# Altium footprint library ICs.PcbLib: 69 footprints (part 4 of 5)
Each footprint in its own frame and in the unit in brackets; x right, y up, seen from the top. Pads: shape width x height; smd on the part's side, far side on the other; paste and mask are expansions set on the pad; w line width, h text height; cw(c..) or ccw(c..) is an arc to the next point about the centre after c.
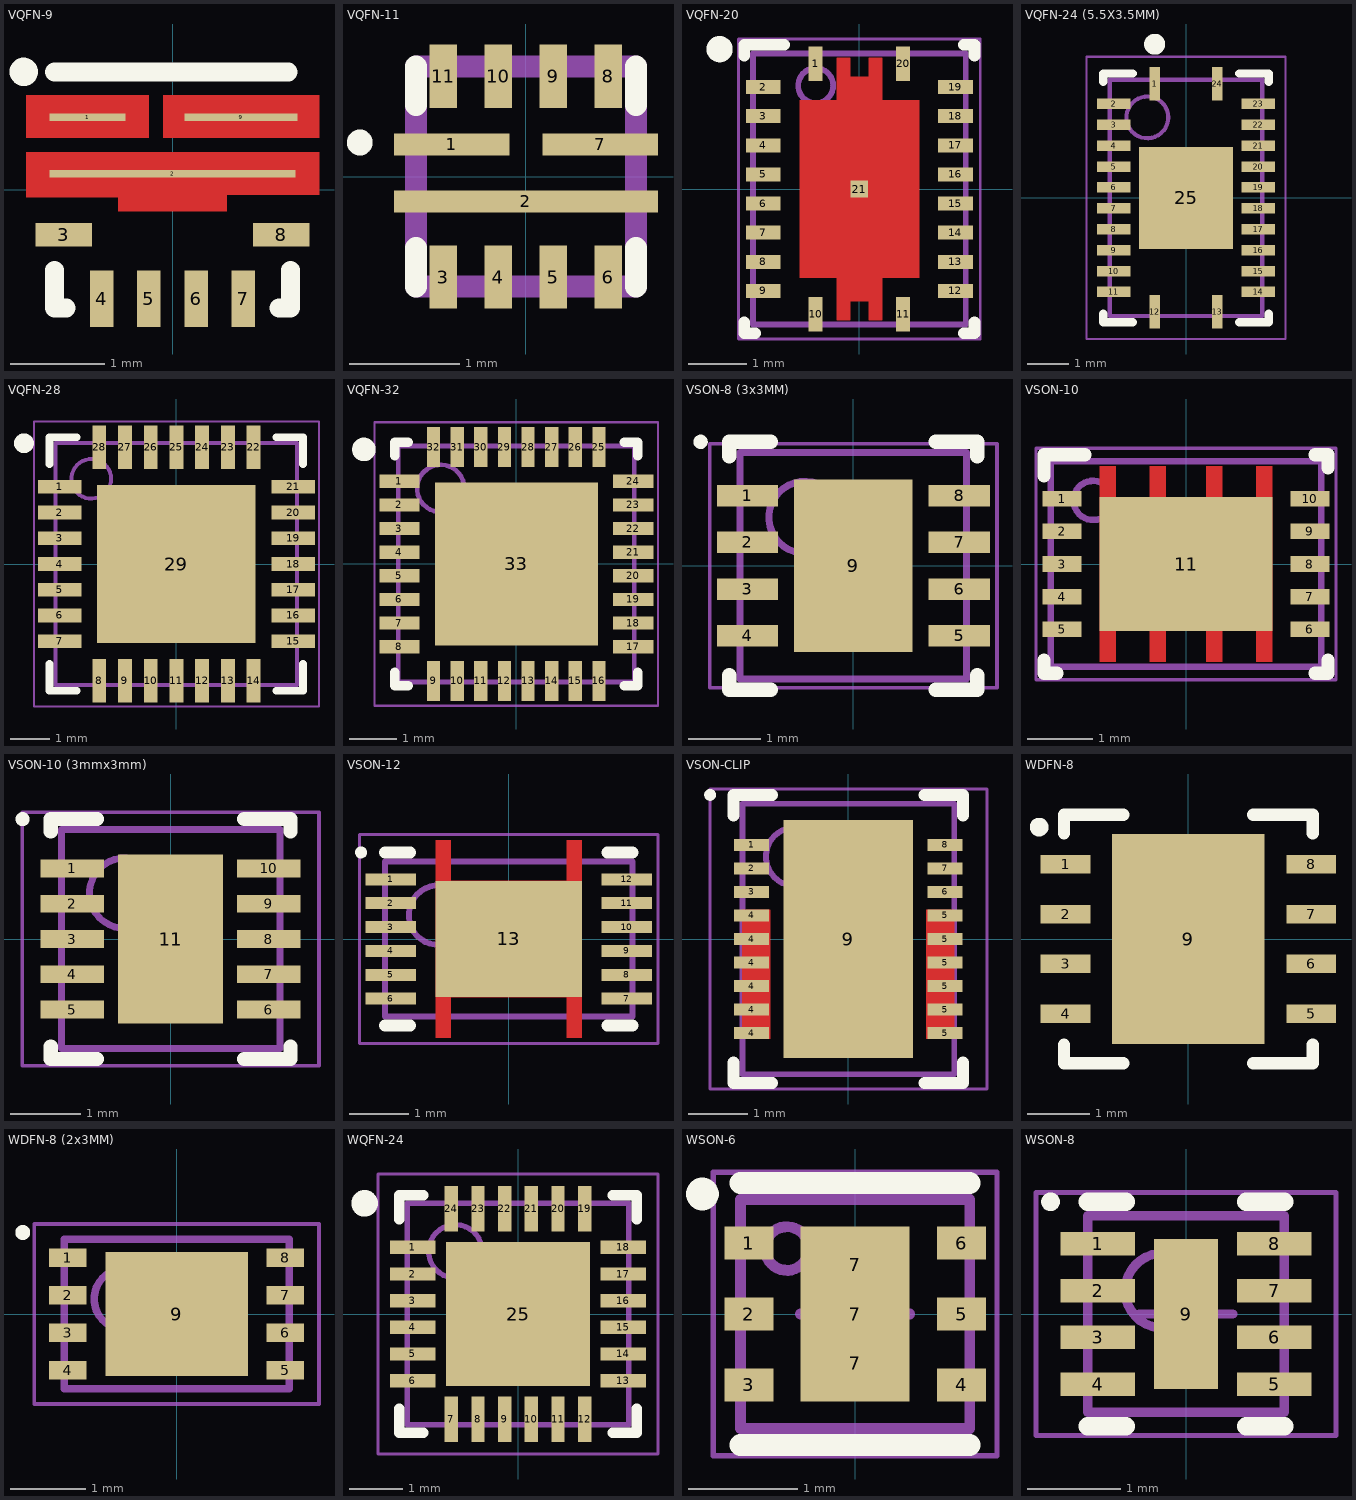
[diagram p3: the footprints below, top view; thin cyan lines are the x and y axes]

## VQFN-9 [mm]
pads (9):
  rect 0.8x0.08 smd: 1(-0.9,0.77)
  rect 2.6x0.08 smd: 2(0,0.17)
  rect 0.6x0.25 smd: 3(-1.15,-0.475) 8(1.15,-0.475)
  rect 0.25x0.6 smd: 4(-0.75,-1.15) 5(-0.25,-1.15) 6(0.25,-1.15) 7(0.75,-1.15)
  rect 1.2x0.08 smd: 9(0.725,0.77)
Top Layer:
  region: -1.55,0.4 -1.55,-0.075 -0.575,-0.075 -0.575,-0.225 0.575,-0.225 0.575,-0.05 1.55,-0.05 1.55,0.4
  region: -0.1,1 1.55,1 1.55,0.55 -0.1,0.55
  region: -1.55,1 -0.25,1 -0.25,0.55 -1.55,0.55
Top Overlay:
  circle w0.2: c-1.575,1.25 r0.05
  lines w0.2: -1.25,-0.85 -1.25,-1.225 -1.25,-1.25 -1.125,-1.25 ; -1.25,1.25 1.225,1.25 ; 1.125,-1.25 1.25,-1.25 1.25,-1.225 1.25,-0.85
Top Solder:
  region: -1.45,0.32 1.45,0.32 1.45,0.02 0.487,0.02 0.487,-0.13 -0.487,-0.13 -0.487,0 -1.45,0
  region: -1.45,0.92 -0.35,0.92 -0.35,0.62 -1.45,0.62
  region: 0,0.92 1.45,0.92 1.45,0.62 0,0.62
3D body: height 1, standoff 0, extent -1.25,-1.25 1.25,1.25

## VQFN-11 [mm]
pads (11):
  rect 1.05x0.2 smd: 1(-0.675,0.293) 7(0.675,0.293)
  rect 2.4x0.2 smd: 2(0,-0.225)
  rect 0.25x0.575 smd: 3(-0.75,-0.913) 4(-0.25,-0.913) 5(0.25,-0.913) 6(0.75,-0.913) 8(0.75,0.913) 9(0.25,0.913) 10(-0.25,0.913) 11(-0.75,0.913)
Top Overlay:
  circle w0.2: c-1.51,0.31 r0.017
  lines w0.2: -1,-1 -1,-0.65 ; -1,0.65 -1,1 ; 1,-1 1,-0.65 ; 1,0.65 1,1
Mechanical 15:
  lines w0.2: -1,-1 1,-1 1,1 -1,1 -1,-1
3D body: height 1, standoff 0, extent -1.05,-1.05 1.05,1.05

## VQFN-20 [mm] "QFN, 20-Leads, Body 4.5x3.5mm, Pitch 0.5mm, Thermal Pad 3.05x2.05mm, TI Recommended"
height 1
pads (21):
  rect 0.24x0.6 smd: 1(-0.75,2.15) 10(-0.75,-2.15) 11(0.75,-2.15) 20(0.75,2.15)
  rect 0.6x0.24 smd: 2(-1.65,1.75) 3(-1.65,1.25) 4(-1.65,0.75) 5(-1.65,0.25) 6(-1.65,-0.25) 7(-1.65,-0.75) 8(-1.65,-1.25) 9(-1.65,-1.75) 12(1.65,-1.75) 13(1.65,-1.25) 14(1.65,-0.75) 15(1.65,-0.25) 16(1.65,0.25) 17(1.65,0.75) 18(1.65,1.25) 19(1.65,1.75)
  rect 0.3x0.3 smd paste-0.15 mask+0: 21(0,0)
Top Layer:
  region: 0.16,2.25 0.16,1.925 -0.16,1.925 -0.16,2.25 -0.39,2.25 -0.39,1.525 -1.025,1.525 -1.025,-1.525 -0.39,-1.525 -0.39,-2.25 -0.16,-2.25 -0.16,-1.925 0.16,-1.925 0.16,-2.25 0.39,-2.25 0.39,-1.525 1.025,-1.525 1.025,1.525 0.39,1.525 0.39,2.25
Top Overlay:
  circle w0.25: c-2.4,2.4 r0.1
  lines w0.2: -1.975,-2.29 -1.975,-2.475 -1.79,-2.475 ; -1.975,2.29 -1.975,2.475 -1.29,2.475 ; 1.79,-2.475 1.975,-2.475 1.975,-2.29 ; 1.79,2.475 1.975,2.475 1.975,2.29
Top Paste:
  rectangle: -0.39,-1.925 0.39,-1.628
  rectangle: -0.39,1.628 0.39,1.925
  rectangle: 0.1,0.1 1.017,1.428
  region: -0.1,1.428 -1.017,1.428 -1.017,0.1 -0.1,0.1
  region: -0.1,-0.1 -1.017,-0.1 -1.017,-1.428 -0.1,-1.428
  rectangle: 0.1,-1.428 1.017,-0.1
Mechanical 13:
  circle w0.1: c-0.75,1.775 r0.3
  lines w0.1: -1.825,-2.325 -1.825,2.325 1.825,2.325 1.825,-2.325 -1.825,-2.325
Mechanical 15:
  lines w0.05: -2.075,-2.575 2.075,-2.575 2.075,2.575 -2.075,2.575 -2.075,-2.575
  lines w0.1: -0.5,0 0.5,0 ; 0,-0.5 0,0.5
3D body: height 1, standoff 0, extent -1.825,-2.325 1.825,2.325
3D body: height 1.01, standoff 0.5, extent -1.049,1.476 -0.451,2.074

## VQFN-24 (5.5X3.5MM) [mm] "QFN, 24-Leads, Body 3.50x5.50mm, Pitch 1.50mm/0.50mm, Thermal Pad 2.26x2.44mm, IPC Medium Density"
height 0.8
pads (25):
  rect 0.25x0.8 smd: 1(-0.75,2.725) 12(-0.75,-2.725) 13(0.75,-2.725) 24(0.75,2.725)
  rect 0.8x0.25 smd: 2(-1.725,2.25) 3(-1.725,1.75) 4(-1.725,1.25) 5(-1.725,0.75) 6(-1.725,0.25) 7(-1.725,-0.25) 8(-1.725,-0.75) 9(-1.725,-1.25) 10(-1.725,-1.75) 11(-1.725,-2.25) 14(1.725,-2.25) 15(1.725,-1.75) 16(1.725,-1.25) 17(1.725,-0.75) 18(1.725,-0.25) 19(1.725,0.25) 20(1.725,0.75) 21(1.725,1.25) 22(1.725,1.75) 23(1.725,2.25)
  rect 2.26x2.44 smd: 25(0,0)
Top Overlay:
  circle w0.25: c-0.75,3.675 r0.125
  lines w0.2: -1.975,-2.775 -1.975,-2.975 -1.275,-2.975 ; -1.975,2.775 -1.975,2.975 -1.275,2.975 ; 1.275,-2.975 1.975,-2.975 1.975,-2.775 ; 1.275,2.975 1.975,2.975 1.975,2.775
Mechanical 13:
  circle w0.1: c-0.925,1.925 r0.5
  lines w0.1: -1.825,-2.825 -1.825,2.825 1.825,2.825 1.825,-2.825 -1.825,-2.825
Mechanical 15:
  lines w0.05: -2.375,-3.375 -2.375,3.375 2.375,3.375 2.375,-3.375 -2.375,-3.375
  lines w0.1: -0.5,0 0.5,0 ; 0,-0.5 0,0.5
3D body "QFN50P350X550X80_HS-25N.step": height 0.8, standoff 0, extent -1.905,-2.905 1.905,2.905

## VQFN-28 [mm] "QFN, 28-Leads, Body 6.1x6.1mm, Pitch 0.65mm, Thermal Pad 4x4mm"
height 1
pads (29):
  rect 1.1x0.35 smd: 1(-2.95,1.95) 2(-2.95,1.3) 3(-2.95,0.65) 4(-2.95,0) 5(-2.95,-0.65) 6(-2.95,-1.3) 7(-2.95,-1.95) 15(2.95,-1.95) 16(2.95,-1.3) 17(2.95,-0.65) 18(2.95,0) 19(2.95,0.65) 20(2.95,1.3) 21(2.95,1.95)
  rect 0.35x1.1 smd: 8(-1.95,-2.95) 9(-1.3,-2.95) 10(-0.65,-2.95) 11(0,-2.95) 12(0.65,-2.95) 13(1.3,-2.95) 14(1.95,-2.95) 22(1.95,2.95) 23(1.3,2.95) 24(0.65,2.95) 25(0,2.95) 26(-0.65,2.95) 27(-1.3,2.95) 28(-1.95,2.95)
  rect 4x4 smd: 29(0,0)
Top Overlay:
  circle w0.25: c-3.85,3.05 r0.125
  lines w0.2: -3.2,-2.525 -3.2,-3.2 -2.525,-3.2 ; -3.2,2.525 -3.2,3.2 -2.525,3.2 ; 2.525,-3.2 3.2,-3.2 3.2,-2.525 ; 2.525,3.2 3.2,3.2 3.2,2.525
Mechanical 13:
  circle w0.1: c-2.15,2.15 r0.5
  lines w0.1: -3.05,-3.05 3.05,-3.05 3.05,3.05 -3.05,3.05 -3.05,-3.05
Mechanical 15:
  lines w0.05: -3.6,-3.6 3.6,-3.6 3.6,3.6 -3.6,3.6 -3.6,-3.6
  lines w0.1: -0.5,0 0.5,0 ; 0,-0.5 0,0.5
3D body "NXP-SOT778-1.stp": height 1, standoff 0, extent -3,-3 3,3

## VQFN-32 [mm] "QFN, 32-Leads, Body 5x5mm, Pitch 0.5mm, Thermal Pad 3.45x3.45mm"
height 1
pads (33):
  rect 0.85x0.28 smd: 1(-2.475,1.75) 2(-2.475,1.25) 3(-2.475,0.75) 4(-2.475,0.25) 5(-2.475,-0.25) 6(-2.475,-0.75) 7(-2.475,-1.25) 8(-2.475,-1.75) 17(2.475,-1.75) 18(2.475,-1.25) 19(2.475,-0.75) 20(2.475,-0.25) 21(2.475,0.25) 22(2.475,0.75) 23(2.475,1.25) 24(2.475,1.75)
  rect 0.28x0.85 smd: 9(-1.75,-2.475) 10(-1.25,-2.475) 11(-0.75,-2.475) 12(-0.25,-2.475) 13(0.25,-2.475) 14(0.75,-2.475) 15(1.25,-2.475) 16(1.75,-2.475) 25(1.75,2.475) 26(1.25,2.475) 27(0.75,2.475) 28(0.25,2.475) 29(-0.25,2.475) 30(-0.75,2.475) 31(-1.25,2.475) 32(-1.75,2.475)
  rect 3.45x3.45 smd: 33(0,0)
Top Overlay:
  circle w0.25: c-3.225,2.425 r0.125
  lines w0.2: -2.575,-2.29 -2.575,-2.575 -2.29,-2.575 ; -2.575,2.29 -2.575,2.575 -2.29,2.575 ; 2.29,-2.575 2.575,-2.575 2.575,-2.29 ; 2.29,2.575 2.575,2.575 2.575,2.29
Mechanical 13:
  circle w0.1: c-1.6,1.6 r0.5
  lines w0.1: -2.5,-2.5 -2.5,2.5 2.5,2.5 2.5,-2.5 -2.5,-2.5
Mechanical 15:
  lines w0.05: -3,-3 -3,3 3,3 3,-3 -3,-3
  lines w0.1: -0.5,0 0.5,0 ; 0,-0.5 0,0.5
3D body: height 1, standoff 0, extent -2.5,-2.5 2.5,2.5

## VSON-8 (3x3MM) [mm] "SON, 8-Leads, Body 3x3mm, Pitch 0.65mm, Thermal Pad 2.4x1.65mm, TI Recommended"
height 1
pads (9):
  rect 0.85x0.3 smd paste-0.025 mask+0.07: 1(-1.475,0.975) 2(-1.475,0.325) 3(-1.475,-0.325) 4(-1.475,-0.975) 5(1.475,-0.975) 6(1.475,-0.325) 7(1.475,0.325) 8(1.475,0.975)
  rect 1.65x2.4 smd paste-0.825 mask+0.07: 9(0,0)
Top Overlay:
  circle w0.1: c-2.125,1.725 r0.05
  lines w0.2: -1.725,-1.525 -1.725,-1.725 -1.15,-1.725 ; -1.725,1.525 -1.725,1.725 -1.15,1.725 ; 1.15,-1.725 1.725,-1.725 1.725,-1.525 ; 1.15,1.725 1.725,1.725 1.725,1.525
Top Paste:
  rectangle: -0.775,0.125 -0.125,1.125
  region: 0.775,1.125 0.125,1.125 0.125,0.125 0.775,0.125
  region: 0.775,-0.125 0.125,-0.125 0.125,-1.125 0.775,-1.125
  rectangle: -0.775,-1.125 -0.125,-0.125
Mechanical 13:
  circle w0.1: c-0.675,0.675 r0.5
  lines w0.1: -1.575,-1.575 -1.575,1.575 1.575,1.575 1.575,-1.575 -1.575,-1.575
Mechanical 15:
  lines w0.05: -2,-1.7 -2,1.7 2,1.7 2,-1.7 -2,-1.7
  lines w0.1: -0.5,0 0.5,0 ; 0,-0.5 0,0.5
3D body: height 1, standoff 0, extent -1.575,-1.575 1.575,1.575

## VSON-10 [mm] "SON, 10-Leads, Body 4x3mm, Pitch 0.5mm, Thermal Pad 3.8x2.65mm"
height 1
pads (11):
  rect 0.6x0.24 smd: 1(-1.9,1) 2(-1.9,0.5) 3(-1.9,0) 4(-1.9,-0.5) 5(-1.9,-1) 6(1.9,-1) 7(1.9,-0.5) 8(1.9,0) 9(1.9,0.5) 10(1.9,1)
  rect 2.65x2.05 smd paste-1.1: 11(0,0)
Top Layer:
  region: -0.31,1.5 -0.56,1.5 -0.56,-1.5 -0.31,-1.5
  region: -1.075,1.5 -1.325,1.5 -1.325,-1.5 -1.075,-1.5
  rectangle: 1.075,-1.5 1.325,1.5
  rectangle: 0.31,-1.5 0.56,1.5
Top Overlay:
  lines w0.2: -2.175,-1.475 -2.175,-1.675 -1.975,-1.675 ; -2.175,1.35 -2.175,1.675 -1.55,1.675 ; 1.975,-1.675 2.175,-1.675 2.175,-1.475 ; 1.975,1.675 2.175,1.675 2.175,1.475
Top Paste:
  rectangle: 0.1,-0.911 1.266,0.911
  region: -0.1,0.911 -1.266,0.911 -1.266,-0.911 -0.1,-0.911
Mechanical 13:
  circle w0.1: c-1.425,0.975 r0.3
  lines w0.1: -2.075,-1.575 2.075,-1.575 2.075,1.575 -2.075,1.575 -2.075,-1.575
Mechanical 15:
  lines w0.05: -2.3,-1.775 2.3,-1.775 2.3,1.775 -2.3,1.775 -2.3,-1.775
  lines w0.1: -0.5,0 0.5,0 ; 0,-0.5 0,0.5
3D body: height 1.01, standoff 0.9, extent -1.724,0.676 -1.126,1.274
3D body: height 1, standoff 0, extent -2.074,-1.574 2.074,1.574

## VSON-10 (3mmx3mm) [mm] "VSON, 10-Leads, Body 3.00x3.00mm, Pitch 0.50mm, Thermal Pad 2.40x1.49mm, IPC Medium Density"
height 1
pads (11):
  rect 0.9x0.25 smd: 1(-1.395,1) 2(-1.395,0.5) 3(-1.395,0) 4(-1.395,-0.5) 5(-1.395,-1) 6(1.395,-1) 7(1.395,-0.5) 8(1.395,0) 9(1.395,0.5) 10(1.395,1)
  rect 1.49x2.4 smd: 11(0,0)
Top Overlay:
  circle w0.1: c-2.1,1.7 r0.05
  lines w0.2: -1.7,-1.525 -1.7,-1.7 -1.045,-1.7 ; -1.7,1.525 -1.7,1.7 -1.045,1.7 ; 1.045,-1.7 1.7,-1.7 1.7,-1.525 ; 1.045,1.7 1.7,1.7 1.7,1.525
Mechanical 13:
  circle w0.1: c-0.65,0.65 r0.5
  lines w0.1: -1.55,-1.55 -1.55,1.55 1.55,1.55 1.55,-1.55 -1.55,-1.55
Mechanical 15:
  lines w0.05: -2.105,-1.8 -2.105,1.8 2.105,1.8 2.105,-1.8 -2.105,-1.8
  lines w0.1: -0.5,0 0.5,0 ; 0,-0.5 0,0.5
3D body: height 1, standoff 0.05, extent -1.55,-1.55 1.55,1.55

## VSON-12 [mm] "SON, 12-Leads, Body 4x2.5mm, Pitch 0.4mm, Thermal Pad 1.95x2.45mm, TI Recommended"
height 1
pads (13):
  rect 0.85x0.2 smd paste-0.1 mask+0.05: 1(-1.975,1) 2(-1.975,0.6) 3(-1.975,0.2) 4(-1.975,-0.2) 5(-1.975,-0.6) 6(-1.975,-1) 7(1.975,-1) 8(1.975,-0.6) 9(1.975,-0.2) 10(1.975,0.2) 11(1.975,0.6) 12(1.975,1)
  rect 2.45x1.95 smd paste-0.975 mask+0.05: 13(0,0)
Top Layer:
  region: -1.225,-1.65 -1.225,1.65 -0.975,1.65 -0.975,0.975 0.975,0.975 0.975,1.65 1.225,1.65 1.225,-1.65 0.975,-1.65 0.975,-0.975 -0.975,-0.975 -0.975,-1.65
Top Overlay:
  circle w0.1: c-2.475,1.45 r0.05
  lines w0.2: -2.075,-1.45 -1.65,-1.45 ; -2.075,1.45 -1.65,1.45 ; 1.65,-1.45 2.075,-1.45 ; 1.65,1.45 2.075,1.45
Top Paste:
  region: 1.225,1.625 0.975,1.625 0.975,1.1 1.225,1.1
  region: 1.225,-1.1 0.975,-1.1 0.975,-1.625 1.225,-1.625
  rectangle: -1.225,-1.625 -0.975,-1.1
  rectangle: -1.225,1.1 -0.975,1.625
  rectangle: -1.1,-0.9 -0.1,-0.1
  region: 1.1,-0.1 0.1,-0.1 0.1,-0.9 1.1,-0.9
  region: 1.1,0.9 0.1,0.9 0.1,0.1 1.1,0.1
  rectangle: -1.1,0.1 -0.1,0.9
  lines w0.2: -2.275,-1 -1.675,-1 ; -2.275,-0.6 -1.675,-0.6 ; -2.275,-0.2 -1.675,-0.2 ; -2.275,0.2 -1.675,0.2 ; -2.275,0.6 -1.675,0.6 ; -2.275,1 -1.675,1 ; 1.675,-1 2.275,-1 ; 1.675,-0.6 2.275,-0.6 ; 1.675,-0.2 2.275,-0.2 ; 1.675,0.2 2.275,0.2 ; 1.675,0.6 2.275,0.6 ; 1.675,1 2.275,1
Mechanical 13:
  circle w0.1: c-1.175,0.4 r0.5
  lines w0.1: -2.075,-1.3 2.075,-1.3 2.075,1.3 -2.075,1.3 -2.075,-1.3
Mechanical 15:
  lines w0.05: -2.5,-1.75 2.5,-1.75 2.5,1.75 -2.5,1.75 -2.5,-1.75
  lines w0.1: -0.5,0 0.5,0 ; 0,-0.5 0,0.5
3D body: height 1, standoff 0, extent -2.075,-1.3 2.075,1.3

## VSON-CLIP [mm] "SON, 18-Leads, Body 4.50x3.50mm, Pitch 0.40mm, Thermal Pad 3.95x1.99mm, IPC Medium Density"
height 1
pads (19):
  rect 0.6x0.2 smd: 1(-1.645,1.6) 2(-1.645,1.2) 3(-1.645,0.8) 4(-1.645,-1.6) 4(-1.645,-1.2) 4(-1.645,-0.8) 4(-1.645,-0.4) 4(-1.645,0) 4(-1.645,0.4) 5(1.645,-1.6) 5(1.645,-1.2) 5(1.645,-0.8) 5(1.645,-0.4) 5(1.645,0) 5(1.645,0.4) 6(1.645,0.8) 7(1.645,1.2) 8(1.645,1.6)
  rect 2.2x4.05 smd: 9(0,0)
Top Layer:
  region: 1.8,0.5 1.325,0.5 1.325,-1.7 1.8,-1.7
  region: -1.8,0.5 -1.325,0.5 -1.325,-1.7 -1.8,-1.7
Top Overlay:
  circle w0.1: c-2.35,2.45 r0.05
  lines w0.2: -1.95,-2.1 -1.95,-2.45 -1.295,-2.45 ; -1.95,2.1 -1.95,2.45 -1.295,2.45 ; 1.295,-2.45 1.95,-2.45 1.95,-2.1 ; 1.295,2.45 1.95,2.45 1.95,2.1
Mechanical 13:
  circle w0.1: c-0.9,1.4 r0.5
  lines w0.1: -1.8,-2.3 1.8,-2.3 1.8,2.3 -1.8,2.3 -1.8,-2.3
Mechanical 15:
  lines w0.05: -2.355,-2.55 2.355,-2.55 2.355,2.55 -2.355,2.55 -2.355,-2.55
  lines w0.1: -0.5,0 0.5,0 ; 0,-0.5 0,0.5
3D body "SON40P350X100_HS-19N.step": height 1, standoff 0, extent -1.801,-2.3 1.801,2.3

## WDFN-8 [mm] "SON, 8-Leads, Body 3.00x3.00mm, Pitch 0.65mm, Thermal Pad 2.00x1.47mm, IPC Medium Density"
height 1
pads (9):
  rect 0.8x0.3 smd: 1(-1.975,1.2) 2(-1.975,0.4) 3(-1.975,-0.4) 4(-1.975,-1.2) 5(1.975,-1.2) 6(1.975,-0.4) 7(1.975,0.4) 8(1.975,1.2)
  rect 2.45x3.38 smd: 9(0,0)
Top Overlay:
  circle w0.2: c-2.4,1.8 r0.05
  lines w0.2: -2,-1.7 -2,-2 -1.045,-2 ; -2,1.7 -2,2 -1.045,2 ; 1.045,-2 2,-2 2,-1.7 ; 1.045,2 2,2 2,1.7
Mechanical 13:
  circle w0.1: c-0.6,0.6 r0.5
Mechanical 15:
  lines w0.1: -0.5,0 0.5,0 ; 0,-0.5 0,0.5
3D body "User Library-SDC08B.STEP": height 0.8, standoff 0, extent -2,-2 2,2

## WDFN-8 (2x3MM) [mm] "SON, 8-Leads, Body 2.00x3.00mm, Pitch 0.50mm, Thermal Pad 1.50x1.88mm, IPC Medium Density"
height 0.8
pads (9):
  rect 0.5x0.25 smd: 1(-1.45,0.75) 2(-1.45,0.25) 3(-1.45,-0.25) 4(-1.45,-0.75) 5(1.45,-0.75) 6(1.45,-0.25) 7(1.45,0.25) 8(1.45,0.75)
  rect 1.9x1.66 smd: 9(0,0)
Top Overlay:
  circle w0.1: c-2.052,1.087 r0.05
Mechanical 13:
  circle w0.1: c-0.7,0.2 r0.4
  lines w0.1: -1.5,-1 -1.5,1 1.5,1 1.5,-1 -1.5,-1
Mechanical 15:
  lines w0.05: -1.9,-1.2 -1.9,1.2 1.9,1.2 1.9,-1.2 -1.9,-1.2
  lines w0.1: -0.5,0 0.5,0 ; 0,-0.5 0,0.5
3D body "SON50P300X80_HS-9N.step": height 0.8, standoff 0, extent -1.501,-1 1.501,1

## WQFN-24 [mm] "QFN, 24-Leads, Body 4.00x4.00mm, Pitch 0.50mm, Thermal Pad 2.70x2.70mm, IPC Medium Density"
height 0.8
pads (25):
  rect 0.85x0.25 smd: 1(-1.975,1.25) 2(-1.975,0.75) 3(-1.975,0.25) 4(-1.975,-0.25) 5(-1.975,-0.75) 6(-1.975,-1.25) 13(1.975,-1.25) 14(1.975,-0.75) 15(1.975,-0.25) 16(1.975,0.25) 17(1.975,0.75) 18(1.975,1.25)
  rect 0.25x0.85 smd: 7(-1.25,-1.975) 8(-0.75,-1.975) 9(-0.25,-1.975) 10(0.25,-1.975) 11(0.75,-1.975) 12(1.25,-1.975) 19(1.25,1.975) 20(0.75,1.975) 21(0.25,1.975) 22(-0.25,1.975) 23(-0.75,1.975) 24(-1.25,1.975)
  rect 2.7x2.7 smd: 25(0,0)
Top Overlay:
  circle w0.25: c-2.875,2.075 r0.125
  lines w0.2: -2.225,-1.775 -2.225,-2.225 -1.775,-2.225 ; -2.225,1.775 -2.225,2.225 -1.775,2.225 ; 1.775,-2.225 2.225,-2.225 2.225,-1.775 ; 1.775,2.225 2.225,2.225 2.225,1.775
Mechanical 13:
  circle w0.1: c-1.175,1.175 r0.5
  lines w0.1: -2.075,-2.075 2.075,-2.075 2.075,2.075 -2.075,2.075 -2.075,-2.075
Mechanical 15:
  lines w0.05: -2.625,-2.625 2.625,-2.625 2.625,2.625 -2.625,2.625 -2.625,-2.625
  lines w0.1: -0.5,0 0.5,0 ; 0,-0.5 0,0.5
3D body "QFN50P400X400X80_HS-25N.step": height 0.8, standoff 0, extent -2.155,-2.155 2.155,2.155

## WSON-6 [mm] "SON, 6-Leads, Body 2x2mm, Pitch 0.65mm, Thermal Pad 1.6x1mm, TI Recommended"
height 0.8
pads (9):
  rect 0.45x0.3 smd: 1(-0.975,0.65) 2(-0.975,0) 3(-0.975,-0.65) 4(0.975,-0.65) 5(0.975,0) 6(0.975,0.65)
  rrect14% 1x0.7 on Top Paste: 7(0,-0.45) 7(0,0.45)
  rect 1x1.6 smd paste-0.5: 7(0,0)
Top Overlay:
  circle w0.2: c-1.4,1.1 r0.05
  lines w0.2: -1.05,-1.2 -0.8,-1.2 1.05,-1.2 ; -1.05,1.2 0.8,1.2 1.05,1.2
Mechanical 13:
  circle w0.1: c-0.625,0.6 r0.2
  lines w0.1: -1.05,-1.05 -1.05,1.05 1.05,1.05 1.05,-1.05 -1.05,-1.05
Mechanical 15:
  lines w0.05: -1.3,-1.3 -1.3,1.3 1.3,1.3 1.3,-1.3 -1.3,-1.3
  lines w0.1: -0.5,0 0.5,0 ; 0,-0.5 0,0.5
3D body: height 0.81, standoff 0.5, extent -0.824,0.401 -0.426,0.799
3D body: height 0.8, standoff 0, extent -1.05,-1.05 1.05,1.05

## WSON-8 [mm] "SON, 8-Leads, Body 2.00x2.00mm, Pitch 0.50mm, Thermal Pad 1.60x0.69mm, IPC Medium Density"
height 0.8
pads (9):
  rect 0.8x0.25 smd mask+0.08: 1(-0.945,0.75) 2(-0.945,0.25) 3(-0.945,-0.25) 4(-0.945,-0.75) 5(0.945,-0.75) 6(0.945,-0.25) 7(0.945,0.25) 8(0.945,0.75)
  rect 0.69x1.6 smd paste-0.345 mask+0.08: 9(0,0)
Top Overlay:
  circle w0.1: c-1.45,1.2 r0.05
  lines w0.2: -1.05,-1.2 -0.645,-1.2 ; -1.05,1.2 -0.645,1.2 ; 0.645,-1.2 1.05,-1.2 ; 0.645,1.2 1.05,1.2
Mechanical 13:
  circle w0.1: c-0.25,0.25 r0.4
  lines w0.1: -1.05,-1.05 1.05,-1.05 1.05,1.05 -1.05,1.05 -1.05,-1.05
Mechanical 15:
  lines w0.05: -1.605,-1.3 1.605,-1.3 1.605,1.3 -1.605,1.3 -1.605,-1.3
  lines w0.1: -0.5,0 0.5,0 ; 0,-0.5 0,0.5
3D body: height 0.8, standoff 0, extent -1.05,-1.05 1.05,1.05